# Altium footprint library V.PcbLib: 33 footprints (part 3 of 3)
Each footprint in its own frame and in the unit in brackets; x right, y up, seen from the top. Pads: shape width x height; smd on the part's side, far side on the other; paste and mask are expansions set on the pad; w line width, h text height; cw(c..) or ccw(c..) is an arc to the next point about the centre after c.
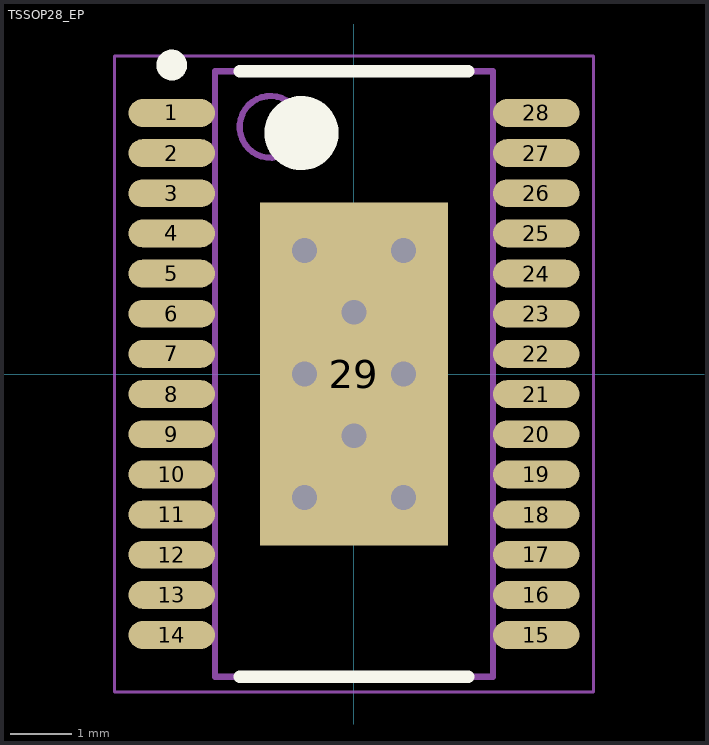
[diagram p2: the footprint, top view; thin cyan lines are the x and y axes]

## TSSOP28_EP [mm] "TSOP, 28-Leads, Body 9.70x4.40mm, Pitch 0.65mm, Thermal Pad 5.55x3.05mm, IPC Medium Density"
height 1.2
pads (29):
  oval 1.4x0.45 smd: 1(-2.95,4.225) 2(-2.95,3.575) 3(-2.95,2.925) 4(-2.95,2.275) 5(-2.95,1.625) 6(-2.95,0.975) 7(-2.95,0.325) 8(-2.95,-0.325) 9(-2.95,-0.975) 10(-2.95,-1.625) 11(-2.95,-2.275) 12(-2.95,-2.925) 13(-2.95,-3.575) 14(-2.95,-4.225) 15(2.95,-4.225) 16(2.95,-3.575) 17(2.95,-2.925) 18(2.95,-2.275) 19(2.95,-1.625) 20(2.95,-0.975) 21(2.95,-0.325) 22(2.95,0.325) 23(2.95,0.975) 24(2.95,1.625) 25(2.95,2.275) 26(2.95,2.925) 27(2.95,3.575) 28(2.95,4.225)
  rect 3.05x5.55 smd: 29(0,0)
via 0.8,-2 diameter 0.9 hole 0.4
via -0.8,-2 diameter 0.9 hole 0.4
via -0.8,0 diameter 0.9 hole 0.4
via 0.8,0 diameter 0.9 hole 0.4
via 0,-1 diameter 0.9 hole 0.4
via 0,1 diameter 0.9 hole 0.4
via 0.8,2 diameter 0.9 hole 0.4
via -0.8,2 diameter 0.9 hole 0.4
Top Overlay:
  circle w0.25: c-2.95,5 r0.125
  circle w0.6: c-0.85,3.9 r0.3
  lines w0.2: -1.85,-4.9 1.85,-4.9 ; -1.85,4.9 1.85,4.9
Top Solder:
  region: -3.8,4.6 -3.8,-4.6 -2.1,-4.6 -2.1,4.6
  region: 3.8,4.6 3.8,-4.6 2.1,-4.6 2.1,4.6
Mechanical 14:
  circle w0.1: c-1.35,4 r0.5
  lines w0.1: -2.25,-4.9 -2.25,4.9 2.25,4.9 2.25,-4.9 -2.25,-4.9
Mechanical 15:
  lines w0.05: -3.875,-5.15 -3.875,5.15 3.875,5.15 3.875,-5.15 -3.875,-5.15
  lines w0.1: -0.5,0 0.5,0 ; 0,-0.5 0,0.5
3D body "TSSOP_EP28.step": height 1.2, standoff 0, extent -3.2,-4.9 3.2,4.9